# Altium schematic symbol library CC0603JRNPO9BN101.SchLib: 1 symbol
Pins are listed as number, name and electrical type; pins without a type are passive.

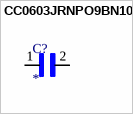
[diagram p0: symbol CC0603JRNPO9BN101]

## CC0603JRNPO9BN101
designator C?
100pF Â±5% 50V Ceramic Capacitor C0G, NP0 0603 (1608 Metric); MF: Yageo; MP: CC0603JRNPO9BN101; Purchase-URL: https://pricing.snapeda.com/search/part/CC0603JRNPO9BN101/?ref=eda; Package: 0603 Yageo; Check_prices: https://www.snapeda.com/parts/CC0603JRNPO9BN101/Yageo/view-part/105560/?ref=eda; Value: *; Price: None; Availability: Good; SnapEDA_Link: https://www.snapeda.com/parts/CC0603JRNPO9BN101/Yageo/view-part/105560/?ref=snap
pins: 1, 2